# Altium schematic symbol library Schlib1.SchLib: 4 symbols
Pins are listed as number, name and electrical type; pins without a type are passive.

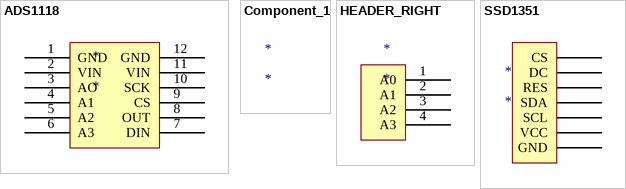
[diagram p0: symbols ADS1118 to SSD1351]

## ADS1118
designator *
pins: 1 GND, 2 VIN, 3 AO, 4 A1, 5 A2, 6 A3, 7 DIN, 8 OUT, 9 CS, 10 SCK, 11 VIN, 12 GND

## Component_1
designator *

## HEADER_RIGHT
designator *
pins: 1 A0, 2 A1, 3 A2, 4 A3

## SSD1351
designator *
pins: 1 GND, 2 VCC, 3 SCL, 4 SDA, 5 RES, 6 DC, 7 CS